# Altium schematic symbol library PHOTO−TRANS.SchLib: 1 symbol
Pins are listed as number, name and electrical type; pins without a type are passive.

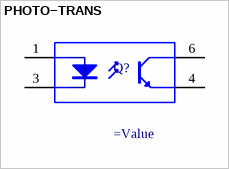
[diagram p0: symbol PHOTO−TRANS]

## PHOTO−TRANS
designator Q?
=Description
pins: 1 A "Anode", 3 K "Cathode", 4 E "Emitter", 6 C "Collector"